# EAGLE library part TPL0102-100RUCR (library edrtech_lib)
256-Taps Dual-Channel Digital Potentiometer With I2C Interface and Nonvolatile Memory Source: Datasheet <http://www.ti.com/lit/ds/symlink/tpl0102-100.pdf>
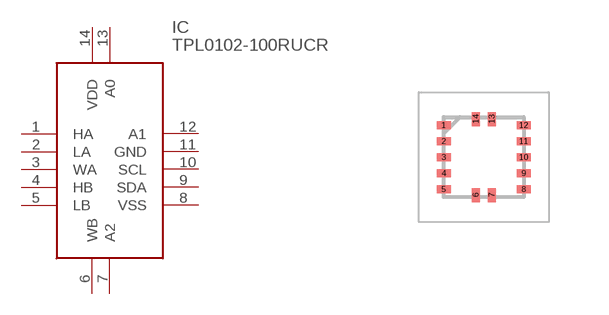
[diagram p65: symbol with the pads of QFN40P200X200X40-14N; footprint QFN40P200X200X40-14N]

Designator prefix IC

## TPL0102-100RUCR (ARROW_PART_NUMBER: TPL0102-100RUCR; ARROW_PRICE-STOCK: https://www.arrow.com/en/products/tpl0102-100rucr/texas-instruments?region=nac; DESCRIPTION: 256-Taps Dual-Channel Digital Potentiometer With I2C Interface and Nonvolatile Memory; HEIGHT: 0.4mm; MANUFACTURER_NAME: Texas Instruments; MANUFACTURER_PART_NUMBER: TPL0102-100RUCR)  [QFN40P200X200X40-14N]
1  HA
2  LA
3  WA
4  HB
5  LB
6  WB
7  A2
8  VSS
9  SDA
10  SCL
11  GND
12  A1
13  A0
14  VDD

## Footprint QFN40P200X200X40-14N (pad centres in mm)
RUC0014A
smd 0.35 x 0.2: 1 -1,0.8; 2 -1,0.4; 3 -1,0; 4 -1,-0.4; 5 -1,-0.8; 8 1,-0.8; 9 1,-0.4; 10 1,0; 11 1,0.4; 12 1,0.8
smd 0.2 x 0.35: 6 -0.2,-0.95; 7 0.2,-0.95; 13 0.2,0.95; 14 -0.2,0.95